# Altium schematic symbol library EEC-325X4B-E016.SchLib: 1 symbol
Pins are listed as number, name and electrical type; pins without a type are passive.

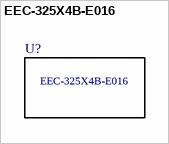
[diagram p0: symbol EEC-325X4B-E016]

## EEC-325X4B-E016
designator U?  (value not drawn)
/ PCB Enclosure with dimensions 3.25 x 4 inches/82.55 x 101.6 millimeters, made from transparent PEI material. /; MF: TE Connectivity; MP: EEC-325X4B-E016; Package: None; Digi-Key_Purchase_URL: https://www.digikey.com/product-detail/en/te-connectivity-deutsch-connectors/EEC-325X4B-E016/1734-1061-ND/6566625?utm_source=snapeda&utm_medium=aggregator&utm_campaign=symbol; EU_RoHS_Compliance: Compliant; Digi-Key_Part_Number: 1734-1061-ND; TE_purchase_URL: https://www.te.com/usa-en/product-EEC-325X4B-E016.html?te_bu=Cor&te_type=disp&te_campaign=seda_glo_cor-seda-global-disp-prtnr-fy19-seda-model-bom-cta_sma-317_1&elqCampaignId=32493; SnapEDA_Link: https://www.snapeda.com/parts/EEC-325X4B-E016/TE%20Connectivity%20Deutsch%20Connectors/view-part/?ref=snap; Value: *
footprint *TE_EEC-325X4B-E016